# Altium footprint library 三极管.PcbLib: 2 footprints
Each footprint in its own frame and in the unit in brackets; x right, y up, seen from the top. Pads: shape width x height; smd on the part's side, far side on the other; paste and mask are expansions set on the pad; w line width, h text height; cw(c..) or ccw(c..) is an arc to the next point about the centre after c.
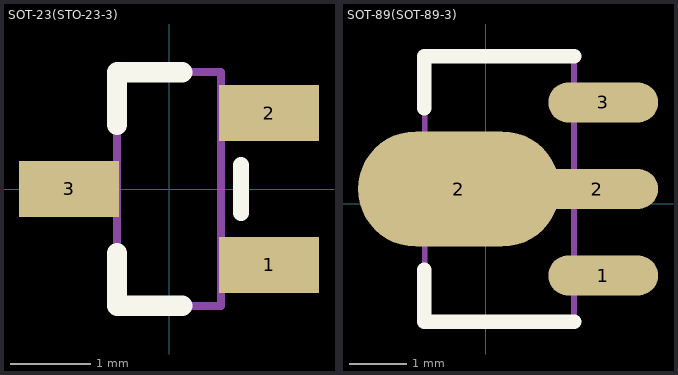
[diagram p0: the footprints below, top view; thin cyan lines are the x and y axes]

## SOT-23(STO-23-3) [mm]
pads (3):
  rect 1.25x0.7 smd: 1(1.25,-0.95) 2(1.25,0.95) 3(-1.25,0)
Top Overlay:
  lines w0.2: 0.9,-0.3 0.9,0.3
  lines w0.254: -0.65,-0.8 -0.65,-1.46 0.165,-1.46 ; 0.165,1.46 -0.65,1.46 ; -0.65,0.8 -0.65,1.46 ; -0.65,0.8 -0.65,1.46 ; -0.65,0.8 -0.65,1.46
Mechanical 13:
  lines w0.1: -0.65,-1.46 -0.65,1.46 ; -0.65,-1.46 0.65,-1.46 ; -0.65,-1.46 0.65,-1.46 ; -0.65,-1.46 -0.65,1.46 ; -0.65,-1.46 0.65,-1.46 ; -0.65,-1.46 -0.65,1.46 ; -0.65,1.46 0.65,1.46 ; -0.65,1.46 0.65,1.46 ; -0.65,1.46 0.65,1.46 ; 0.65,-1.46 0.65,1.46 ; 0.65,-1.46 0.65,1.46 ; 0.65,-1.46 0.65,1.46
3D body "SOT-23.step": height 1.3, standoff 0, extent -1.5,-1.5 1.5,1.5

## SOT-89(SOT-89-3) [mm]
pads (4):
  oval 1.9x0.7 smd: 1(2.032,-1.246) 3(2.032,1.754)
  oval 3.5x2 smd: 2(-0.468,0.254)
  oval 2.1x0.7 smd: 2(1.932,0.254)
Top Overlay:
  lines w0.254: -1.068,-1.146 -1.068,-2.046 1.532,-2.046 ; -1.068,1.654 -1.068,2.554 1.532,2.554
Mechanical 13:
  lines w0.1: -1.063,-2.046 -1.063,2.554 1.527,2.554 1.527,-2.046 -1.063,-2.046
3D body "SOT-89-3.STEP": height 1.51, standoff 0, extent -1.718,-1.996 2.582,2.504